# EAGLE library part NEO-M8N-0 (library NEO-M8N-0)
Ic Receiver Gps/Gnss 24lcc
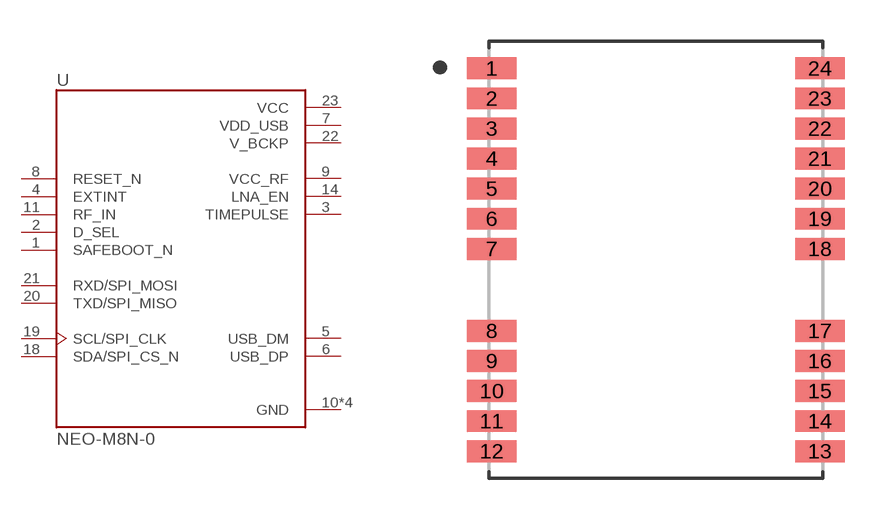
[diagram p0: symbol with the pads of XCVR_NEO-M8N-0; footprint XCVR_NEO-M8N-0]

Designator prefix U

## NEO-M8N-0 (Description: NEO-M8 RF Receiver BeiDou, Galileo, GLONASS, GNSS, GPS 1.575GHz -167dBm; Digi-Key_Part_Number: 672-NEO-M8N-0CT-ND; MF: U-Blox America; MP: NEO-M8N-0; Package: SMD-24 U-Blox America Inc.; Purchase-URL: https://pricing.snapeda.com/search/part/NEO-M8N-0/?ref=eda)  [XCVR_NEO-M8N-0]
1  SAFEBOOT_N  in
2  D_SEL  in
3  TIMEPULSE  out
4  EXTINT  in
5  USB_DM
6  USB_DP
7  VDD_USB  pwr
8  RESET_N  in
9  VCC_RF  out
10  GND  pwr
11  RF_IN  in
12  GND  pwr
13  GND  pwr
14  LNA_EN  out
18  SDA/SPI_CS_N
19  SCL/SPI_CLK  in
20  TXD/SPI_MISO  out
21  RXD/SPI_MOSI  in
22  V_BCKP  pwr
23  VCC  pwr
24  GND  pwr

## Footprint XCVR_NEO-M8N-0 (pad centres in mm)
smd 1.8 x 0.8: 1 -6,7; 2 -6,5.9; 3 -6,4.8; 4 -6,3.7; 5 -6,2.6; 6 -6,1.5; 7 -6,0.4; 8 -6,-2.6; 9 -6,-3.7; 10 -6,-4.8; 11 -6,-5.9; 12 -6,-7; 13 6,-7; 14 6,-5.9; 15 6,-4.8; 16 6,-3.7; 17 6,-2.6; 18 6,0.4; 19 6,1.5; 20 6,2.6; 21 6,3.7; 22 6,4.8; 23 6,5.9; 24 6,7